# EAGLE library part LM5116 (library _RoweTel)
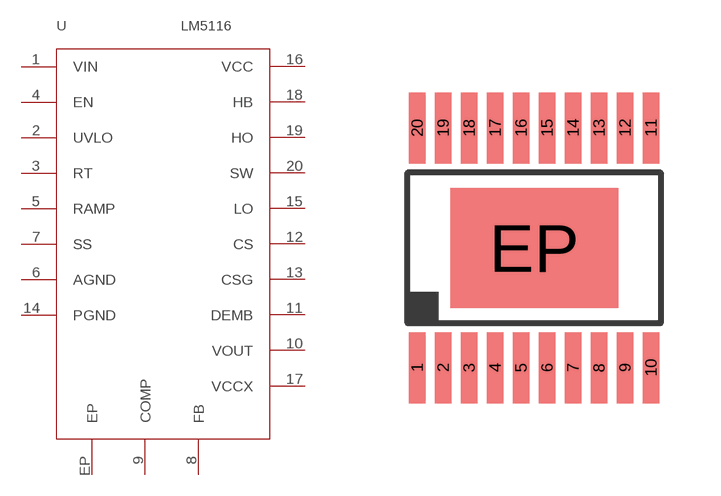
[diagram p29: symbol with the pads of MXA20A; footprint MXA20A]

Designator prefix U

## LM5116  [MXA20A]
1  VIN
2  UVLO
3  RT
4  EN
5  RAMP
6  AGND
7  SS
8  FB
9  COMP
10  VOUT
11  DEMB
12  CS
13  CSG
14  PGND
15  LO
16  VCC
17  VCCX
18  HB
19  HO
20  SW
EP  EP

## Footprint MXA20A (pad centres in mm)
smd 0.42 x 1.78: 1 -2.925,-3; 2 -2.275,-3; 3 -1.625,-3; 4 -0.975,-3; 5 -0.325,-3; 6 0.325,-3; 7 0.975,-3; 8 1.625,-3; 9 2.275,-3; 10 2.925,-3; 11 2.925,3; 12 2.275,3; 13 1.625,3; 14 0.975,3; 15 0.325,3; 16 -0.325,3; 17 -0.975,3; 18 -1.625,3; 19 -2.275,3; 20 -2.925,3
smd 4.2 x 3: EP 0,0